# EAGLE library part HEADER_2X15 (library pixhawk2)
2X15 header
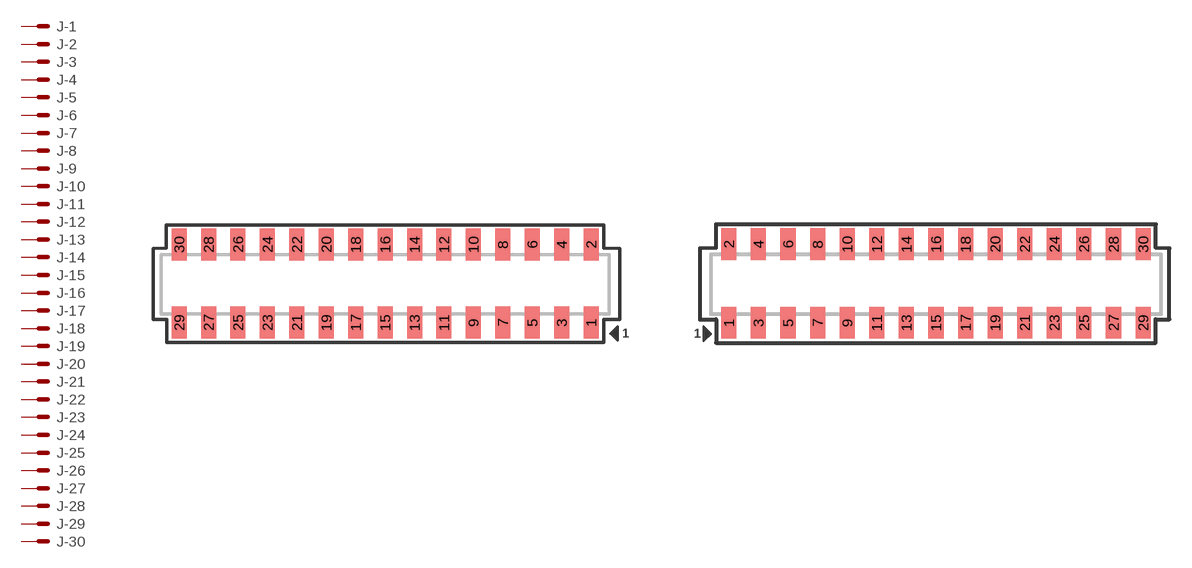
[diagram p15: symbol with the pads of HEADER_2MM_2X15; footprints HEADER_2MM_2X15, HEADER_2MM_2X15_REVERSE]

Designator prefix J; gates -1=M -2=M -3=M -4=M -5=M -6=M -7=M -8=M -9=M -10=M -11=M -12=M -13=M -14=M -15=M -16=M -17=M -18=M -19=M -20=M -21=M -22=M -23=M -24=M -25=M -26=M -27=M -28=M -29=M -30=M

## HEADER_2X15-SMD  [HEADER_2MM_2X15]
1  -1:S  pas
2  -2:S  pas
3  -3:S  pas
4  -4:S  pas
5  -5:S  pas
6  -6:S  pas
7  -7:S  pas
8  -8:S  pas
9  -9:S  pas
10  -10:S  pas
11  -11:S  pas
12  -12:S  pas
13  -13:S  pas
14  -14:S  pas
15  -15:S  pas
16  -16:S  pas
17  -17:S  pas
18  -18:S  pas
19  -19:S  pas
20  -20:S  pas
21  -21:S  pas
22  -22:S  pas
23  -23:S  pas
24  -24:S  pas
25  -25:S  pas
26  -26:S  pas
27  -27:S  pas
28  -28:S  pas
29  -29:S  pas
30  -30:S  pas

## HEADER_2X15-REV  [HEADER_2MM_2X15_REVERSE]
Pads as for HEADER_2MM_2X15

## HEADER_2X15-POGO  [HEADER_2MM_2X15_POGO]
Pads as for HEADER_2MM_2X15

## HEADER_2X15-POGO-REV  [HEADER_2MM_2X15_REVERSE_POGO]
Pads as for HEADER_2MM_2X15

## HEADER_2X15-TH-SHROUDED  [HEADER_2.54MM-2X15-SHROUDED_LOCK]
Pads as for HEADER_2MM_2X15

## Footprint HEADER_2MM_2X15 (pad centres in mm)
2mm Surface Mount Box Connector Strip Assembly
smd 1.02 x 2.16: 1 14,-2.655; 2 14,2.655; 3 12,-2.655; 4 12,2.655; 5 10,-2.655; 6 10,2.655; 7 8,-2.655; 8 8,2.655; 9 6,-2.655; 10 6,2.655; 11 4,-2.655; 12 4,2.655; 13 2,-2.655; 14 2,2.655; 15 0,-2.655; 16 0,2.655; 17 -2,-2.655; 18 -2,2.655; 19 -4,-2.655; 20 -4,2.655; 21 -6,-2.655; 22 -6,2.655; 23 -8,-2.655; 24 -8,2.655; 25 -10,-2.655; 26 -10,2.655; 27 -12,-2.655; 28 -12,2.655; 29 -14,-2.655; 30 -14,2.655

## Footprint HEADER_2MM_2X15_REVERSE (pad centres in mm)
2mm Surface Mount Connector Strip Assembly, reversed for board-to-board mating
smd 1.02 x 2.16: 1 -14,-2.655; 2 -14,2.655; 3 -12,-2.655; 4 -12,2.655; 5 -10,-2.655; 6 -10,2.655; 7 -8,-2.655; 8 -8,2.655; 9 -6,-2.655; 10 -6,2.655; 11 -4,-2.655; 12 -4,2.655; 13 -2,-2.655; 14 -2,2.655; 15 0,-2.655; 16 0,2.655; 17 2,-2.655; 18 2,2.655; 19 4,-2.655; 20 4,2.655; 21 6,-2.655; 22 6,2.655; 23 8,-2.655; 24 8,2.655; 25 10,-2.655; 26 10,2.655; 27 12,-2.655; 28 12,2.655; 29 14,-2.655; 30 14,2.655

## Footprint HEADER_2MM_2X15_POGO (pad centres in mm)
drill 1.4 pad 2: 1 14,-2; 2 14,2; 3 12,-3.3; 4 12,3.3; 5 10,-2; 6 10,2; 7 8,-3.3; 8 8,3.3; 9 6,-2; 10 6,2; 11 4,-3.3; 12 4,3.3; 13 2,-2; 14 2,2; 15 0,-3.3; 16 0,3.3; 17 -2,-2; 18 -2,2; 19 -4,-3.3; 20 -4,3.3; 21 -6,-2; 22 -6,2; 23 -8,-3.3; 24 -8,3.3; 25 -10,-2; 26 -10,2; 27 -12,-3.3; 28 -12,3.3; 29 -14,-2; 30 -14,2

## Footprint HEADER_2MM_2X15_REVERSE_POGO (pad centres in mm)
drill 1.4 pad 2: 1 -14,-2; 2 -14,2; 3 -12,-3.3; 4 -12,3.3; 5 -10,-2; 6 -10,2; 7 -8,-3.3; 8 -8,3.3; 9 -6,-2; 10 -6,2; 11 -4,-3.3; 12 -4,3.3; 13 -2,-2; 14 -2,2; 15 0,-3.3; 16 0,3.3; 17 2,-2; 18 2,2; 19 4,-3.3; 20 4,3.3; 21 6,-2; 22 6,2; 23 8,-3.3; 24 8,3.3; 25 10,-2; 26 10,2; 27 12,-3.3; 28 12,3.3; 29 14,-2; 30 14,2

## Footprint HEADER_2.54MM-2X15-SHROUDED_LOCK (pad centres in mm)
drill 1.016 pad 1.88 octagon: 1 -1.397,17.78; 2 1.397,17.78; 3 -1.397,15.24; 4 1.397,15.24; 5 -1.397,12.7; 6 1.397,12.7; 7 -1.397,10.16; 8 1.397,10.16; 9 -1.397,7.62; 10 1.397,7.62; 11 -1.397,5.08; 12 1.397,5.08; 13 -1.397,2.54; 14 1.397,2.54; 15 -1.397,0; 16 1.397,0; 17 -1.397,-2.54; 18 1.397,-2.54; 19 -1.397,-5.08; 20 1.397,-5.08; 21 -1.397,-7.62; 22 1.397,-7.62; 23 -1.397,-10.16; 24 1.397,-10.16; 25 -1.397,-12.7; 26 1.397,-12.7; 27 -1.397,-15.24; 28 1.397,-15.24; 29 -1.397,-17.78; 30 1.397,-17.78